# EAGLE library part DRV8834 (library martinmake)
The DRV8834 supports two configurations: phase/enable mode, where the outputs are controlled by phase (direction) and enable signals for each H-bridge, and indexer mode, which allow control of a stepper motor using simple step and direction inputs.
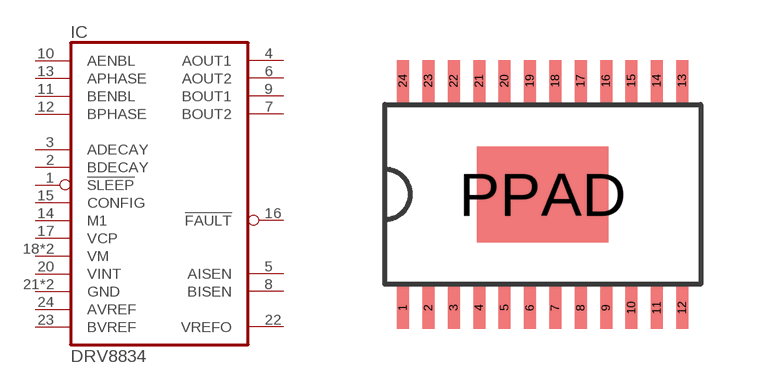
[diagram p1: symbol with the pads of HTSSOP; footprint HTSSOP]

Designator prefix IC

## DRV8834SMD  [HTSSOP]
1  !SLEEP  in
2  BDECAY  in
3  ADECAY  in
4  AOUT1  out
5  AISEN  out
6  AOUT2  out
7  BOUT2  out
8  BISEN  out
9  BOUT1  out
10  AENBL  in
11  BENBL  in
12  BPHASE  in
13  APHASE  in
14  M1  in
15  CONFIG  in
16  !FAULT  out
17  VCP  in
18  VM  in
19  VM  in
20  VINT  in
21  GND  in
22  VREFO  out
23  BVREF  in
24  AVREF  in
PPAD  GND  in

## Footprint HTSSOP (pad centres in mm)
smd 0.3 x 1.05: 1 -3.493,-2.84; 2 -2.857,-2.84; 3 -2.223,-2.84; 4 -1.587,-2.84; 5 -0.953,-2.84; 6 -0.318,-2.84; 7 0.318,-2.84; 8 0.953,-2.84; 9 1.587,-2.84; 10 2.223,-2.84; 11 2.857,-2.84; 12 3.493,-2.84; 13 3.493,2.84; 14 2.857,2.84; 15 2.223,2.84; 16 1.587,2.84; 17 0.953,2.84; 18 0.318,2.84; 19 -0.318,2.84; 20 -0.953,2.84; 21 -1.587,2.84; 22 -2.223,2.84; 23 -2.857,2.84; 24 -3.493,2.84
smd 3.28 x 2.4: PPAD 0,0